# EAGLE library part 70553-09 (library con-molex-c-grid)
C-Grid SL
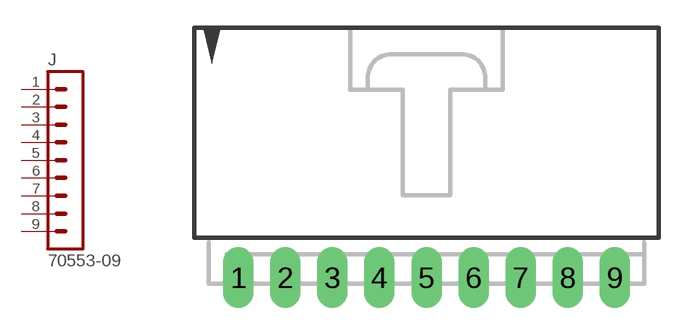
[diagram p23: symbol with the pads of 70553-09; footprint 70553-09]

Designator prefix J

## 70553-09  [70553-09]
1  1  pas
2  2  pas
3  3  pas
4  4  pas
5  5  pas
6  6  pas
7  7  pas
8  8  pas
9  9  pas

## Footprint 70553-09 (pad centres in mm)
C-Grid SL right angle
drill 1.092 long: 1 -10.16,-7.62; 2 -7.62,-7.62; 3 -5.08,-7.62; 4 -2.54,-7.62; 5 0,-7.62; 6 2.54,-7.62; 7 5.08,-7.62; 8 7.62,-7.62; 9 10.16,-7.62